# Altium footprint library black_V6.PcbLib: 18 footprints (part 1 of 2)
Each footprint in its own frame and in the unit in brackets; x right, y up, seen from the top. Pads: shape width x height; smd on the part's side, far side on the other; paste and mask are expansions set on the pad; w line width, h text height; cw(c..) or ccw(c..) is an arc to the next point about the centre after c.
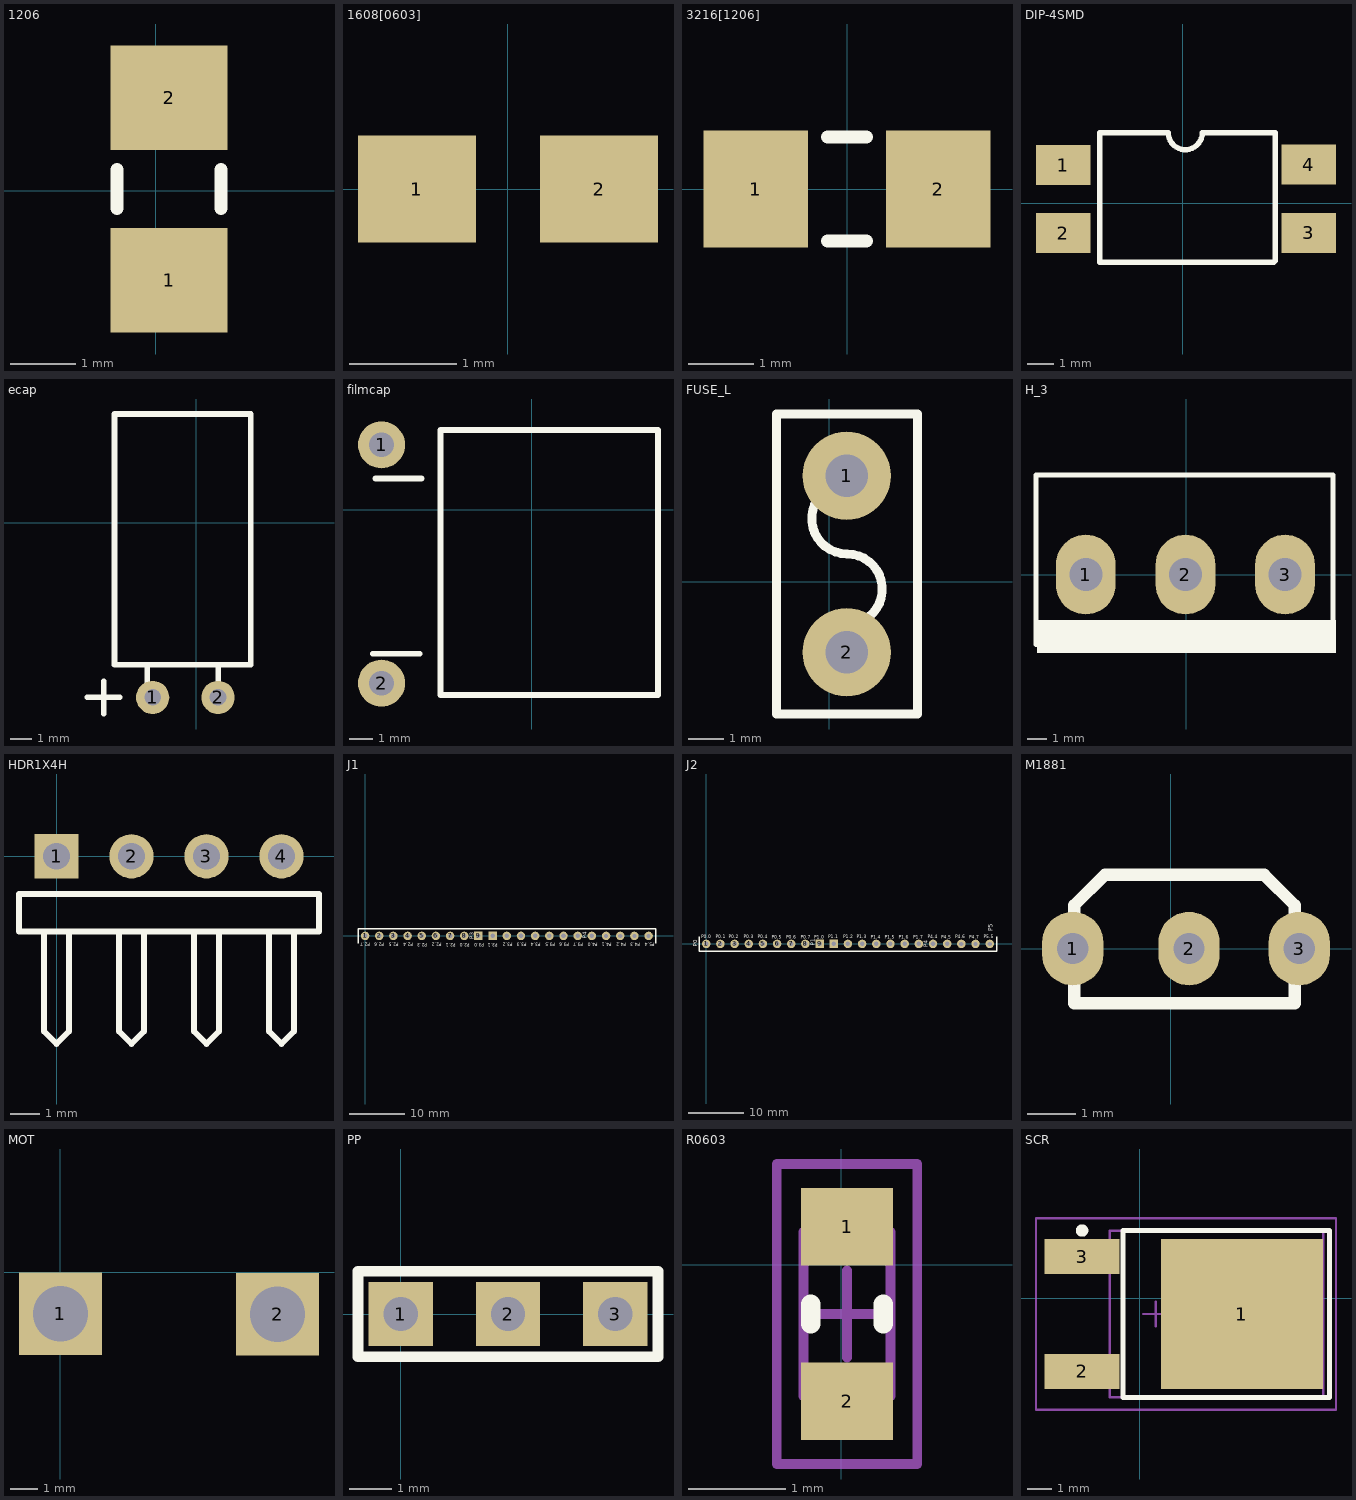
[diagram p0: the footprints below, top view; thin cyan lines are the x and y axes]

## 1206 [mm]
pads (2):
  rect 1.8x1.6 smd: 1(0.203,-1.375) 2(0.203,1.425)
Top Overlay:
  lines w0.2: -0.597,-0.275 -0.597,0.325 ; 1.003,-0.275 1.003,0.325

## 1608[0603] [mm] "Chip Capacitor; Body 1.6 x 0.8 mm (LxW typ)"
height 1.35
pads (2):
  rect 1.1x1 smd: 1(-0.85,0) 2(0.85,0)

## 3216[1206] [mm] "Chip Resistor; Body 3.2 x 1.6 mm (LxW typ)"
height 2.54
pads (2):
  rect 1.6x1.8 smd: 1(-1.4,0) 2(1.4,0)
Top Overlay:
  lines w0.2: -0.3,-0.8 0.3,-0.8 ; -0.3,0.8 0.3,0.8

## DIP-4SMD [mil]
pads (4):
  rect 80x59.06 smd: 1(-176.07,56.13) 2(-176.07,-43.87) 3(184.95,-43.47) 4(184.95,56.92)
Top Overlay:
  lines w7.87: 133.77,-86.78 -122.13,-86.78 -122.13,103.77 -21.54,103.77 ccw(c3.46,103.77) 28.46,103.77 135.74,103.77 135.74,-84.81

## ecap [mil]
pads (2):
  round 60 hole 30: 1(-78.74,-314.96) 2(39.37,-314.96)
Top Overlay:
  lines w10: -196.85,-314.96 -137.8,-314.96 ; -167.32,-344.49 -167.32,-285.43 ; -88.58,-295.28 -88.58,-255.91 ; 39.37,-295.28 39.37,-255.91 ; -147.64,-255.91 49.21,-255.91 98.42,-255.91 98.43,-49.21 98.43,196.85 -147.64,196.85 -147.64,-255.91

## filmcap [mil]
height 118.11
pads (2):
  round 80 hole 42: 1(-255,110) 2(-255,-295)
Top Overlay:
  lines w10: -270,-245 -190,-245 ; -265,53 -187,53 ; -155,-315 -155,135 215,135 215,-315 -20.75,-315 -155,-315

## FUSE_L [mm]
pads (2):
  round 2.5 hole 1.2: 1(0.5,3) 2(0.5,-2)
Top Overlay:
  lines w0.254: 0.508,-1.213 ccw(c0.508,-0.213) 0.508,0.787 cw(c0.508,1.787) 0.508,2.787 ; -1.492,-3.75 -1.492,4.75 2.508,4.75 2.508,-3.75 -1.492,-3.75

## H_3 [mm]
pads (3):
  oval 3x4 hole 1.65: 1(-5.047,0) 2(-0.047,0) 3(4.953,0)
Top Overlay:
  rectangle: -7.493,-3.937 7.507,-2.286
  lines w0.254: -7.547,-3.5 7.366,-3.5 7.366,5 -7.547,5 -7.547,-3.5

## HDR1X4H [mm] "Connector; Header; 4 Position; Right Angle"
pads (4):
  rect 1.5x1.5 hole 0.9: 1(0,0)
  round 1.5 hole 0.9: 2(2.54,0) 3(5.08,0) 4(7.62,0)
Top Overlay:
  lines w0.2: -0.423,-2.54 -0.423,-5.927 0,-6.35 0.423,-5.927 0.423,-2.54 ; 2.117,-2.54 2.117,-5.927 2.54,-6.35 2.963,-5.927 2.963,-2.54 ; 4.657,-2.54 4.657,-5.927 5.08,-6.35 5.503,-5.927 5.503,-2.54 ; 7.197,-2.54 7.197,-5.927 7.62,-6.35 8.043,-5.927 8.043,-2.54 ; -1.27,-2.54 -1.27,-1.27 8.89,-1.27 8.89,-2.54 -1.27,-2.54

## J1 [mil]
pads (21):
  round 60 hole 32: 1(0,0) 2(100,0) 3(200,0) 4(300,0) 5(400,0) 6(500,0) 7(600,0) 8(700,0) 11(1000,0) 12(1100,0) 13(1200,0) 14(1300,0) 15(1400,0) 16(1500,0) 17(1600,0)
  rect 60x60 hole 32: 9(800,0) 10(900,0)
  round 60 hole 30: 18(1700,0) 19(1800,0) 20(1900,0) 21(2000,0)
Top Overlay:
  lines w10: -50,-50 -50,50 2050,50 2050,-50
  text "P4.2" at 1841,-49 h23.62
  text "P3.0" at 841,-52 h23.62
  text "P2.4" at 340,-49 h23.62
  text "P2.2" at 541,-49 h23.62
  text "P2.3" at 439,-50 h23.62
  text "P3.2" at 1041,-49 h23.62
  text "P4" at 1564,-21 h27.56
  text "P3" at 765,-23 h27.56
  text "P2.0" at 738,-51 h23.62
  text "P2.1" at 638,-51 h23.62
  text "P2.5" at 237,-49 h23.62
  text "P2.6" at 135,-49 h23.62
  text "P2.7" at 38,-49 h23.62
  text "P3.1" at 935,-50 h23.62
  text "P3.3" at 1140,-49 h23.62
  text "P3.4" at 1240,-49 h23.62
  text "P3.5" at 1340,-49 h23.62
  text "P3.6" at 1441,-49 h23.62
  text "P3.7" at 1538,-49 h23.62
  text "P4.0" at 1642,-49 h23.62
  text "P4.1" at 1740,-48 h23.62
  text "P4.3" at 1942,-49 h23.62
  text "P5.4" at 2043,-49 h23.62
Bottom Overlay:
  lines w10: -50,50 2050,50 2050,-51 ; -5,-93 -5,7
  text "P2.5" at 159,-51 h23.62
  text "P3.1" at 864,-51 h23.62
  text "P5.4" at 1961,-51 h23.62
  text "P4.3" at 1860,-51 h23.62
  text "P4.2" at 1759,-52 h23.62
  text "P3.2" at 963,-51 h23.62
  text "P3.3" at 1063,-51 h23.62
  text "P3.4" at 1163,-51 h23.62
  text "P3.5" at 1264,-51 h23.62
  text "P3.6" at 1364,-51 h23.62
  text "P4.0" at 1563,-51 h23.62
  text "P2.0" at 663,-51 h23.62
  text "P2.1" at 567,-51 h23.62
  text "P2.2" at 464,-51 h23.62
  text "P2.3" at 365,-51 h23.62
  text "P2.4" at 262,-51 h23.62
  text "P3.7" at 1468,-51 h23.62
  text "P2.6" at 65,-51 h23.62
  text "P4.1" at 1663,-51 h23.62
  text "P3.0" at 764,-51 h23.62
  text "P2.7" at -40,-51 h23.62
  text "P3" at 764,21 h27.56
  text "P4" at 1565,21 h27.56

## J2 [mil]
pads (21):
  round 60 hole 32: 1(0,0) 2(100,0) 3(200,0) 4(300,0) 5(400,0) 6(500,0) 7(600,0) 8(700,0) 11(1000,0) 12(1100,0) 13(1200,0) 14(1300,0) 15(1400,0) 16(1500,0) 17(1600,0) 18(1700,0)
  rect 60x60 hole 32: 9(800,0) 10(900,0)
  round 60 hole 30: 19(1800,0) 20(1900,0) 21(2000,0)
Top Overlay:
  lines w10: -50,49 -50,-50 2050,-50 2050,50
  text "P5" at 2020,88 h31.5
  text "P4.4" at 1563,39 h23.62
  text "P1.0" at 761,38 h23.62
  text "P4.5" at 1658,38 h23.62
  text "P4.6" at 1757,39 h23.62
  text "P0" at -65,-19 h27.56
  text "P1" at 764,-13 h27.56
  text "P4" at 1563,-23 h27.56
  text "P5.5" at 1959,39 h23.62
  text "P4.7" at 1857,38 h23.62
  text "P1.7" at 1461,38 h23.62
  text "P1.5" at 1259,38 h23.62
  text "P1.4" at 1161,38 h23.62
  text "P1.3" at 1061,39 h23.62
  text "P1.2" at 967,39 h23.62
  text "P1.1" at 860,39 h23.62
  text "P0.7" at 667,37 h23.62
  text "P0.6" at 564,37 h23.62
  text "P0.5" at 463,38 h23.62
  text "P0.4" at 364,39 h23.62
  text "P0.3" at 264,39 h23.62
  text "P0.2" at 160,40 h23.62
  text "P0.1" at 66,39 h23.62
  text "P0.0" at -36,40 h23.62
  text "P1.6" at 1358,38 h23.62
Bottom Overlay:
  lines w10: -50,50 -50,-50 2050,-50 2050,50
  text "P5" at 2024,146 h27.56
  text "P1.0" at 840,38 h23.62
  text "P4.5" at 1741,37 h23.62
  text "P0" at -66,23 h27.56
  text "P1.6" at 1442,39 h23.62
  text "P0.0" at 47,40 h23.62
  text "P4" at 1565,20 h27.56
  text "P1" at 764,15 h27.56
  text "P5.5" at 2040,40 h23.62
  text "P4.7" at 1938,41 h23.62
  text "P4.6" at 1835,39 h23.62
  text "P4.4" at 1645,39 h23.62
  text "P1.7" at 1544,39 h23.62
  text "P1.5" at 1339,39 h23.62
  text "P1.4" at 1240,38 h23.62
  text "P1.3" at 1138,39 h23.62
  text "P1.2" at 1038,39 h23.62
  text "P1.1" at 940,40 h23.62
  text "P0.7" at 741,38 h23.62
  text "P0.6" at 640,39 h23.62
  text "P0.5" at 540,38 h23.62
  text "P0.4" at 439,40 h23.62
  text "P0.3" at 340,40 h23.62
  text "P0.1" at 138,40 h23.62
  text "P0.2" at 241,39 h23.62

## M1881 [mil]
pads (3):
  oval 50x60 hole 25.59: 1(-80,0) 2(15,0) 3(105,0)
Top Overlay:
  lines w10: -78.69,-44.69 -78.69,35.31 -53.69,60.31 76.31,60.31 101.31,35.31 101.31,-44.69 -78.69,-44.69

## MOT [mm]
height 19.1
pads (2):
  rect 3x3 hole 2: 1(0,-1.5) 2(7.874,-1.524)

## PP [mil]
pads (3):
  rect 60x60 hole 32: 1(0,0) 2(100,0) 3(200,0)
Top Overlay:
  lines w10: -40,-40 240,-40 240,0 240,40 -40,40 -40,-40
Bottom Overlay:
  lines w10: -40,-40 -40,40 240,40 240,-40 -40,-40

## R0603 [mm]
height 2.54
pads (2):
  rect 0.95x0.8 smd: 1(0.06,0.392) 2(0.06,-1.408)
Top Overlay:
  lines w0.2: -0.315,-0.608 -0.315,-0.408 ; 0.435,-0.608 0.435,-0.408
Mechanical 13:
  lines w0.1: -0.39,-1.358 -0.39,0.342 0.51,0.342 0.51,-1.358 -0.39,-1.358
Mechanical 15:
  lines w0.1: -0.39,-0.508 0.51,-0.508 ; 0.06,-0.958 0.06,-0.058 ; -0.665,-2.058 -0.665,1.042 0.785,1.042 0.785,-2.058 -0.665,-2.058
3D body: height 0.6, standoff 0, extent -0.39,-1.358 0.51,0.342

## SCR [mm]
height 5.08
pads (3):
  rect 6.5x6 smd: 1(4.095,-0.635)
  rect 3x1.4 smd: 2(-2.315,-2.935) 3(-2.315,1.665)
Top Overlay:
  circle w0.25: c-2.315,2.715 r0.125
  lines w0.2: -0.665,-3.985 -0.665,2.715 7.62,2.715 7.62,-3.985 -0.665,-3.985
Mechanical 13:
  lines w0.1: -1.215,-3.985 -1.215,2.715 7.366,2.715 7.366,-3.985 -1.215,-3.985
Mechanical 15:
  lines w0.1: 0.135,-0.635 1.135,-0.635 ; 0.635,-1.135 0.635,-0.135 ; -4.165,-4.485 -4.165,3.215 7.874,3.215 7.874,-4.485 -4.165,-4.485
3D body: height 1.8, standoff 0, extent -1.215,-3.985 7.239,2.715